# Altium footprint library 充电基本电量.PcbLib: 21 footprints (part 1 of 2)
Each footprint in its own frame and in the unit in brackets; x right, y up, seen from the top. Pads: shape width x height; smd on the part's side, far side on the other; paste and mask are expansions set on the pad; w line width, h text height; cw(c..) or ccw(c..) is an arc to the next point about the centre after c.
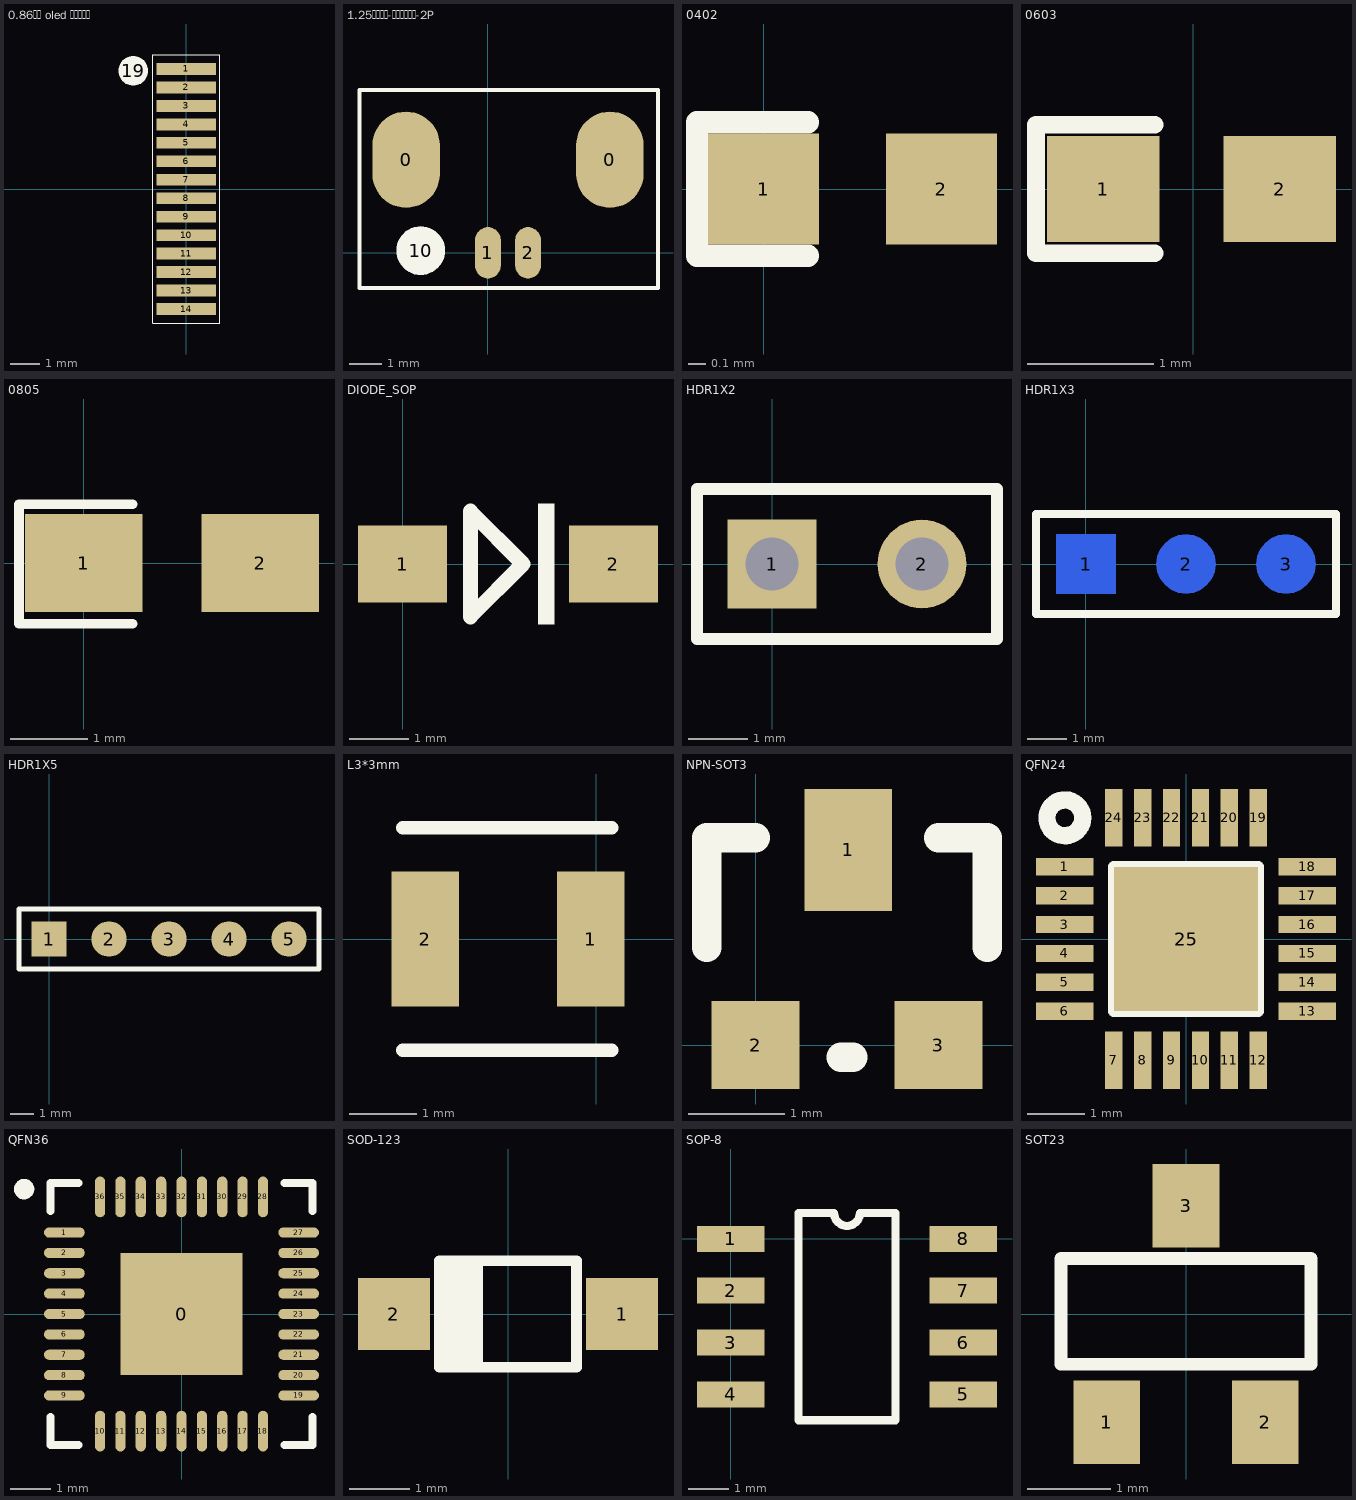
[diagram p0: the footprints below, top view; thin cyan lines are the x and y axes]

## 0.86�� oled ��ʾ�� [mm]
height 0.5
pads (15):
  rect 2x0.4 smd: 1(0,4.03) 2(0,3.41) 3(0,2.79) 4(0,2.17) 5(0,1.55) 6(0,0.93) 7(0,0.31) 8(0,-0.31) 9(0,-0.93) 10(0,-1.55) 11(0,-2.17) 12(0,-2.79) 13(0,-3.41) 14(0,-4.03)
  round 1 on Top Overlay: 19(-1.774,3.963)
Top Overlay:
  lines w0.025: -1.122,-4.5 0,-4.5 1.122,-4.5 1.122,0 1.122,4.5 0,4.5 -1.122,4.5 -1.122,0 -1.122,-4.5

## 1.25����-��ʽͨ��-2P [mm]
height 0.5
pads (5):
  oval 2.1x3 smd: 0(-2.55,2.9) 0(3.8,2.9)
  oval 0.8x1.6 smd: 1(0,0) 2(1.25,0)
  round 1.524 on Top Overlay: 10(-2.096,0.066)
Top Overlay:
  lines w0.127: -4,-1.1 -4,5.075 5.3,5.075 5.3,-1.1 -4,-1.1

## 0402 [mil]
height 62.99
pads (2):
  rect 25x25 smd: 1(0,0) 2(40,0)
Top Overlay:
  lines w5: 10,-15 -15,-15 -15,15 10,15

## 0603 [mil]
pads (2):
  rect 35x33 smd: 1(-28,0) 2(27,0)
Top Overlay:
  lines w5.5: -12,-20 -49,-20 -49,20 -12,20

## 0805 [mil]
height 19.68
pads (2):
  rect 60x50 smd: 1(0,0) 2(90,0)
Top Overlay:
  lines w5: 25,-31 -33,-31 -33,30 25,30

## DIODE_SOP [mm]
pads (2):
  rect 1.5x1.3 smd: 1(0,0) 2(3.556,0)
Top Overlay:
  rectangle: 2.286,-1.016 2.559,1.016
  lines w0.254: 1.143,-0.889 1.143,0.889 2.032,0 1.143,-0.889

## HDR1X2 [mm]
pads (2):
  rect 1.5x1.5 hole 0.9: 1(0,0)
  round 1.5 hole 0.9: 2(2.54,0)
Top Overlay:
  lines w0.2: -1.27,-1.27 -1.27,1.27 3.81,1.27 3.81,-1.27 -1.27,-1.27

## HDR1X3 [mm]
height 0.5
pads (3):
  rect 1.5x1.5 smd far side: 1(0,0)
  round 1.5 smd far side: 2(2.54,0) 3(5.08,0)
Top Overlay:
  lines w0.2: -1.27,-1.27 -1.27,1.27 6.35,1.27 6.35,-1.27 -1.27,-1.27

## HDR1X5 [mm]
height 0.5
pads (5):
  rect 1.5x1.5 smd: 1(0,0)
  round 1.5 smd: 2(2.54,0) 3(5.08,0) 4(7.62,0) 5(10.16,0)
Top Overlay:
  lines w0.2: -1.27,-1.27 11.43,-1.27 11.43,1.27 -1.27,1.27 -1.27,-1.27

## L3*3mm [mm]
pads (2):
  rect 1x2 smd: 1(-0.085,-0.001) 2(-2.541,-0.001)
Top Overlay:
  lines w0.2: -2.875,-1.65 0.225,-1.65 ; -2.875,1.65 0.225,1.65
Mechanical 10:
  text "2" at -2.81,0.2 h0.4
  text "1" at -0.16,0.2 h0.4

## NPN-SOT3 [mil]
height 19.68
pads (3):
  rect 36x50 smd: 1(38,80)
  rect 36x36 smd: 2(0,0) 3(75,0)
Top Overlay:
  lines w12: -20,40 -20,85 0,85 ; 35,-5 40,-5 ; 75,85 95,85 95,40

## QFN24 [mm]
height 1.27
pads (25):
  rect 1x0.3 smd: 1(-2.1,1.25) 2(-2.1,0.75) 3(-2.1,0.25) 4(-2.1,-0.25) 5(-2.1,-0.75) 6(-2.1,-1.25) 13(2.1,-1.25) 14(2.1,-0.75) 15(2.1,-0.25) 16(2.1,0.25) 17(2.1,0.75) 18(2.1,1.25)
  rect 0.3x1 smd: 7(-1.25,-2.1) 8(-0.75,-2.1) 9(-0.25,-2.1) 10(0.25,-2.1) 11(0.75,-2.1) 12(1.25,-2.1) 19(1.25,2.1) 20(0.75,2.1) 21(0.25,2.1) 22(-0.25,2.1) 23(-0.75,2.1) 24(-1.25,2.1)
  rect 2.5x2.5 smd: 25(0,0)
Top Overlay:
  circle w0.3: c-2.1,2.1 r0.31
  lines w0.2: -1.25,-1.25 -1.25,1.25 1.25,1.25 1.25,-1.25 -1.25,-1.25

## QFN36 [mm]
height 0.9
pads (37):
  rect 3x3 smd: 0(0,0)
  oval 1x0.25 smd: 1(-2.875,2) 2(-2.875,1.5) 3(-2.875,1) 4(-2.875,0.5) 5(-2.875,0) 6(-2.875,-0.5) 7(-2.875,-1) 8(-2.875,-1.5) 9(-2.875,-2) 19(2.875,-2) 20(2.875,-1.5) 21(2.875,-1) 22(2.875,-0.5) 23(2.875,0) 24(2.875,0.5) 25(2.875,1) 26(2.875,1.5) 27(2.875,2)
  oval 0.25x1 smd: 10(-2,-2.875) 11(-1.5,-2.875) 12(-1,-2.875) 13(-0.5,-2.875) 14(0,-2.875) 15(0.5,-2.875) 16(1,-2.875) 17(1.5,-2.875) 18(2,-2.875) 28(2,2.875) 29(1.5,2.875) 30(1,2.875) 31(0.5,2.875) 32(0,2.875) 33(-0.5,2.875) 34(-1,2.875) 35(-1.5,2.875) 36(-2,2.875)
Top Overlay:
  circle w0.25: c-3.865,3.065 r0.125
  lines w0.2: -3.215,-2.525 -3.215,-3.215 -2.525,-3.215 ; -3.215,2.525 -3.215,3.215 -2.525,3.215 ; 2.525,-3.215 3.215,-3.215 3.215,-2.525 ; 2.525,3.215 3.215,3.215 3.215,2.525

## SOD-123 [mm]
height 0.5
pads (2):
  rect 1.2x1.2 smd: 1(1.905,0) 2(-1.905,0)
Top Overlay:
  rectangle: -1.142,-0.889 -0.507,0.889
  lines w0.178: -0.508,-0.889 -0.508,0.889 ; -1.143,-0.889 -1.143,0.889 1.143,0.889 1.143,0.445 1.143,-0.445 1.143,-0.889 -1.143,-0.889

## SOP-8 [mil]
height 19.68
pads (8):
  rect 65x25 smd: 1(0,0) 2(0,-50) 3(0,-100) 4(0,-150) 5(224.41,-150) 6(224.41,-100) 7(224.41,-50) 8(224.41,0)
Top Overlay:
  lines w7.87: 65.37,-175 159.04,-175 159.04,25 124.7,25 cw(c112.2,25) 99.7,25 65.37,25 65.37,-175

## SOT23 [mil] "SOT23"
height 19.68
pads (3):
  rect 31.5x39.4 smd: 1(-37.4,-51.2) 2(37.4,-51.2) 3(0,51.2)
Top Overlay:
  lines w6: -59.1,-23.8 59.1,-23.8 59.1,26.2 -59.1,26.2 -59.1,-23.8